# EAGLE library part BNX01 (library kblom)
Block Type EMIFIL (LC Combined) source <http://www.farnell.com/datasheets/609133.pdf>
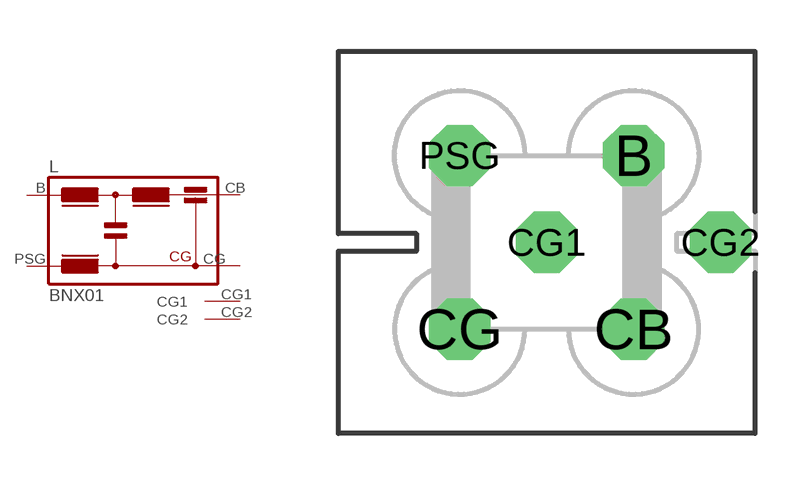
[diagram p15: symbol with the pads of BNX; footprint BNX]

Designator prefix L

## BNX016 (FARNELL: 1828969)  [BNX]
B  B1  pas
CB  CB1  pas
CG  CG  pas
CG1  CG1
CG2  CG2
PSG  PSG1  pas

## Footprint BNX (pad centres in mm)
drill 1.194 octagon: B 2.54,2.54; CB 2.54,-2.54; CG -2.54,-2.54; CG1 0,0; CG2 5.08,0; PSG -2.54,2.54